# Altium schematic symbol library MainBoardLib.SchLib: 18 symbols
Pins are listed as number, name and electrical type; pins without a type are passive.

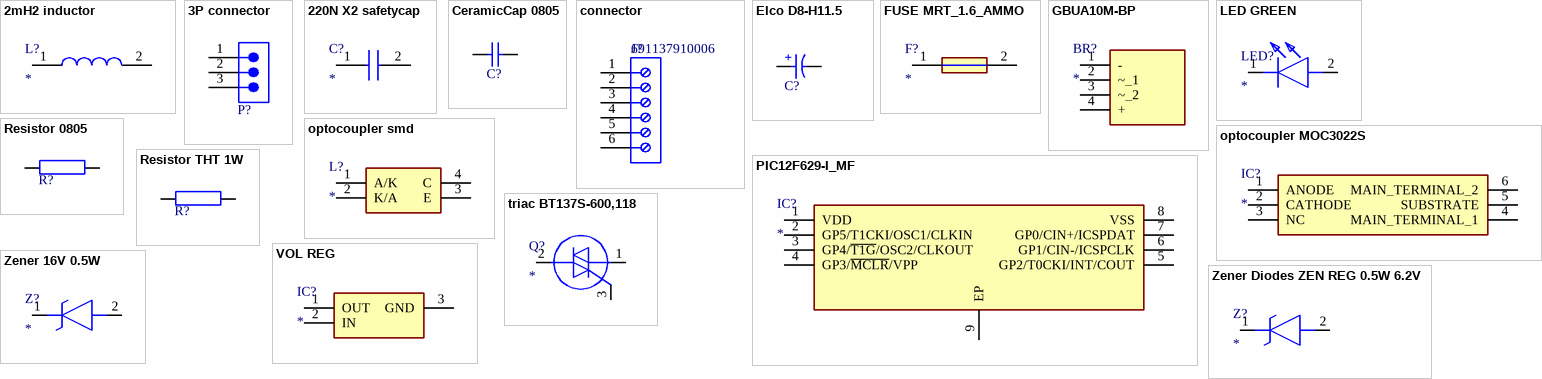
[diagram p0: symbols 2mH2 inductor to Zener Diodes ZEN REG 0.5W 6.2V]

## 2mH2 inductor
designator L?
Inductor  1140-222k-sc / 140-222K-RC; Manufacturer_Name: Bourns; Manufacturer_Part_Number: 1140-222K-RC; Datasheet Link: http://www.bourns.com/docs/Product-Datasheets/1140_series.pdf; Height: 26.162mm; Mouser Part Number: 542-1140-222K-RC; Mouser Price/Stock: https://www.mouser.co.uk/ProductDetail/Bourns/1140-222K-RC?qs=oBhrY4n2hVwJtcTK7vYUOQ%3D%3D; Arrow Part Number: 1140-222K-RC; Arrow Price/Stock: https://www.arrow.com/en/products/1140-222k-rc/bourns
footprint 2.2mH inductor (1140222KRC)
pins: 1, 2

## 3P connector
designator P?, comment 61300311121  (value not drawn)
WR-PHD Pin Header, THT, Vertical, pitch 2.54mm, 1 Row, 3P 61300311121; Manufacturer: Wurth Elektronik; Contact Resistance: 20mOhm; Rated Current: 3A; Working Voltage: 250V; Withstanding Voltage: 500V; Manufacturer Part Number: 61300311121; Category: Board-to-Board Connectors; Match Code: WR-PHD; ComponentLink1Description: Website Link; ComponentLink1URL: https://www.we-online.com/redexpert/article/61300311121?ad; ComponentLink2Description: Datasheet Link; ComponentLink2URL: https://www.we-online.com/redexpert/spec/61300311121?ad; Mount: Through Hole; Operating Temperature Max: 105°C; Operating Temperature Min: -40°C; Packaging: Bag; Gender: Pin Header; Number of Pins: 3; Number of Rows: 1; Orientation: Vertical; Pitch: 2.54mm
footprint connector 3p M (Pin Header, pitch 2.54 mm, THT, Vertical, single row, 3p)
pins: 1, 2, 3

## 220N X2 safetycap
designator C?
Capacitor B32932A3224K189; Manufacturer_Name: TDK; Datasheet Link: https://product.tdk.com/system/files/dam/doc/product/capacitor/film/emi/data_sheet/20/20/ds/mkt_b32932_936.pdf; Manufacturer_Part_Number: B32932A3224K189; Mouser Part Number: 871-B32932A3224K189; Mouser Price/Stock: https://www.mouser.co.uk/ProductDetail/EPCOS-TDK/B32932A3224K189?qs=xUjyHVpcJwaD87vZwqy58g%3D%3D
footprint B32932A_(18_x_8.5) (220N X2 safetycap)
pins: 1, 2

## CeramicCap 0805
designator C?, comment 100nF  (value not drawn)
WCAP-CSGP Multilayer Ceramic Chip Capacitor, General Purpose, size 0805, X7R, 100nF, 50VDC; Manufacturer Part Number: 885012207098; Manufacturer: Wurth Elektronik; Case/Size Code: 0805; Capacitance Tolerance: +/-10%; Dissipation Factor: 2.5%; Insulation Resistance: 5GOhm; Rated Voltage (DC): 50V; Technical Reference: X7R0805104K050DFCT10000; Category: Multilayer Ceramic Chip Capacitors; Match Code: WCAP-CSGP; ComponentLink1Description: Website Link; ComponentLink1URL: https://www.we-online.com/redexpert/article/885012207098?ad; ComponentLink2Description: Datasheet Link; ComponentLink2URL: https://www.we-online.com/redexpert/spec/885012207098?ad; Mount: Surface Mount; Operating Temperature Max: 125°C; Operating Temperature Min: -55°C; Packaging: Tape and Reel; Length: 2mm; Width: 1.25mm; Height: 0.8mm; Capacitance: 100nF; Ceramic Type: X7R
footprint WCAP-CSGP_0805_L2W1.25H0.8_Reflow (Ceramic Capacitors, body 2x1.25mm)
footprint WCAP-CSGP_0805_L2W1.25H0.8_Wave
simulation model 0805_885012207098_100nF
pins: 1, 2

## connector
designator J?, comment 691137910006
NexarPartId: 105950641
footprint connector 6p (Horizontal Cable Entry with Pressure Clamp, pitch 7.5mm, 06p)
pins: 1, 2, 3, 4, 5, 6

## Elco D8-H11.5
designator C?, comment 220uF  (value not drawn)
WCAP-ATG8 Aluminum Electrolytic Capacitor, Radial, THT, D8 x H11.5mm, 220uF, 35V; Manufacturer Part Number: 860010574011; Manufacturer: Wurth Elektronik; Capacitance Tolerance: +/-20%; Dissipation Factor: 12%; Endurance: 2000h; Leakage Current: 77uA; Ripple Current: 385mA; Technical Reference: ATBE115221M035DSPA7B000; Category: Aluminum Electrolytic Capacitors; Match Code: WCAP-ATG8; ComponentLink1Description: Website Link; ComponentLink1URL: https://www.we-online.com/redexpert/article/860010574011?ad; ComponentLink2Description: Datasheet Link; ComponentLink2URL: https://www.we-online.com/redexpert/spec/860010574011?ad; Mount: Through Hole; Operating Temperature Max: 85°C; Operating Temperature Min: -40°C; Packaging: Ammo Pack; Height: 11.5mm; Diameter: 8mm; Capacitance: 220uF; Rated Voltage (DC): 35V
footprint WCAP-ATG8_D8H11.5 (Aluminum Electrolytic Capacitors, 8x11.5mm)
simulation model 860010574011_220uF
pins: 1 P, 2 N
text: +

## FUSE MRT_1.6_AMMO
designator F?
Fuse MRT_1.6_AMMO; Manufacturer_Name: BelFuse; Manufacturer_Part_Number: MRT 1.6 AMMO; Datasheet Link: https://www.belfuse.com/resources/datasheets/circuitprotection/ds-cp-mrt-series.pdf; Height: 7.9mm; Mouser Part Number: 530-MRT1.6AMMO; Mouser Price/Stock: https://www.mouser.co.uk/ProductDetail/Bel-Fuse/MRT-16-AMMO?qs=MvPYbBWWJyvzAphvU3%252BjhQ%3D%3D; Arrow Part Number: MRT 1.6 AMMO; Arrow Price/Stock: https://www.arrow.com/en/products/mrt1.6-ammo/bel-group
footprint FUSE MRT (MRT16AMMO)
pins: 1, 2

## GBUA10M-BP
designator BR?
Bridge Rectifier; Manufacturer_Name: MCC; Manufacturer_Part_Number: GBUA10M-BP; Datasheet Link: https://www.mccsemi.com/pdf/Products/GBUA10M(JC).pdf; Height: 3.7mm
footprint TO508P370X2000X1310-4P
pins: 1 -, 2 ~_1, 3 ~_2, 4 +

## LED GREEN
designator LED?
LED HSMG-C170; Manufacturer_Name: Avago Technologies; Datasheet Link: https://datasheet.datasheetarchive.com/originals/distributors/SFDatasheet-4/sf-00083853.pdf; Height: 0.8mm; Manufacturer_Part_Number: HSMG-C170; Mouser Part Number: 630-HSMG-C170; Mouser Price/Stock: https://www.mouser.co.uk/ProductDetail/Broadcom-Avago/HSMG-C170?qs=YDL0qNrpDT4lm8ArMPkMEA%3D%3D
footprint LED 0805 (LEDC2012X80N)
pins: 1 K, 2 A

## optocoupler MOC3022S
designator IC?
integrated circuit; Manufacturer_Name: Lite-On; Manufacturer_Part_Number: MOC3022S; Datasheet Link: http://optoelectronics.liteon.com/upload/download/DS-70-99-0019/MOC302X%20series%20201606.pdf; Height: 4.6mm; Mouser Part Number: 859-MOC3022S; Mouser Price/Stock: https://www.mouser.co.uk/ProductDetail/Lite-On/MOC3022S?qs=Xz6ZzMsXYiMGEjhojNzjUw%3D%3D; Arrow Part Number: MOC3022S; Arrow Price/Stock: https://www.arrow.com/en/products/moc3022s/lite-on-technology
footprint optoucoupler MOC3022S (SOT254P1016X460-6N)
pins: 1 ANODE, 2 CATHODE, 3 NC, 4 MAIN_TERMINAL_1, 5 SUBSTRATE, 6 MAIN_TERMINAL_2

## optocoupler smd
designator L?
Inductor SFH6206-3T; Manufacturer_Name: Vishay; Datasheet Link: https://www.vishay.com/docs/83675/sfh620a.pdf; Height: 4.1mm; Manufacturer_Part_Number: SFH6206-3T; Mouser Part Number: 782-SFH6206-3T; Mouser Price/Stock: https://www.mouser.co.uk/ProductDetail/Vishay-Semiconductors/SFH6206-3T?qs=%2Fjqivxn91cfcfJy%252Bpwis%2Fw%3D%3D; Arrow Part Number: SFH6206-3T; Arrow Price/Stock: https://www.arrow.com/en/products/sfh6206-3t/vishay?region=europe
footprint optocoupler smd (SOP254P1005X410-4N)
pins: 1 A/K, 2 K/A, 3 E, 4 C

## PIC12F629-I_MF
designator IC?
Integrated Circuit; Manufacturer_Name: Microchip; Manufacturer_Part_Number: PIC12F629-I/MF; Datasheet Link: http://ww1.microchip.com/downloads/en/DeviceDoc/41190G.pdf; Height: 1mm; Mouser Part Number: 579-PIC12F629-I/MF; Mouser Price/Stock: https://www.mouser.co.uk/ProductDetail/Microchip-Technology-Atmel/PIC12F629-I-MF?qs=Ux5rHyN1IXRyFoXTct%252B9Fg%3D%3D; Arrow Part Number: PIC12F629-I/MF; Arrow Price/Stock: https://www.arrow.com/en/products/pic12f629-imf/microchip-technology
footprint PIC12F629-I_MF (SON127P600X500X100-9N-D)
pins: 1 VDD, 2 GP5/T1CKI/OSC1/CLKIN, 3 GP4/~{T1G}/OSC2/CLKOUT, 4 GP3/~{MCLR}/VPP, 5 GP2/T0CKI/INT/COUT, 6 GP1/CIN-/ICSPCLK, 7 GP0/CIN+/ICSPDAT, 8 VSS, 9 EP

## Resistor 0805
designator R?, comment 0.1Ω  (value not drawn)
WRIS-KSKE Thick Film Resistor, SMT, size 0805, 0.33W, 0.1Ω, +/-1%; Manufacturer Part Number: 560050320001; Manufacturer: Wurth Elektronik; Case/Size Code: 0805; Rated Current: 1.81A; Technical Reference: KE0805R100F103LAATP0000; Temperature Coefficient of Resistance: 250ppm/°C; Category: Thick Film Resistors; Match Code: WRIS-KSKE; ComponentLink1Description: Website Link; ComponentLink1URL: https://www.we-online.com/redexpert/article/560050320001?ad; ComponentLink2Description: Datasheet Link; ComponentLink2URL: https://www.we-online.com/redexpert/spec/560050320001?ad; Mount: Surface Mount; Operating Temperature Max: 155°C; Operating Temperature Min: -55°C; Packaging: Tape and Reel; Length: 2mm; Width: 1.25mm; Height: 0.6mm; Rated Power: 0.33W; Resistance: 0.1Ω; Resistance Tolerance: +/-1%
footprint Res 0805 (Thick Film Resistors, SMT, body size 2x1.25mm)
pins: 1, 2

## Resistor THT 1W
designator R?, comment 0.1Ω  (value not drawn)
Manufacturer Part Number: 560050320001; Manufacturer: Wurth Elektronik; Match Code: WRIS-KSKE; Case/Size Code: 0805; Rated Current: 1.81A; Rated Power: 0.33W; Resistance Tolerance: +/-1%; Technical Reference: KE0805R100F103LAATP0000; Temperature Coefficient of Resistance: 250ppm/°C; Category: Thick Film Resistors; ComponentLink1Description: Website Link; ComponentLink1URL: https://www.we-online.com/redexpert/article/560050320001?ad; ComponentLink2Description: Datasheet Link; ComponentLink2URL: https://www.we-online.com/redexpert/spec/560050320001?ad; Mount: Surface Mount; Operating Temperature Max: 155°C; Operating Temperature Min: -55°C; Packaging: Tape and Reel; Length: 2mm; Width: 1.25mm; Height: 0.6mm; Resistance: 0.1Ω
footprint RES_THT_1W
pins: 1, 2

## triac BT137S-600,118
designator Q?
Triac BT137S-600,118; Manufacturer_Name: WeEn Semiconductors; Datasheet Link: https://datasheet.datasheetarchive.com/originals/distributors/Datasheets_SAMA/6f648ac3c87a35283db8e9482e52c049.pdf; Height: 2.38mm; Manufacturer_Part_Number: BT137S-600,118; Mouser Part Number: 771-BT137S-600118; Mouser Price/Stock: https://www.mouser.co.uk/ProductDetail/WeEn-Semiconductors/BT137S-600118?qs=me8TqzrmIYXlu%252B8KdpBmXQ%3D%3D; Arrow Part Number: BT137S-600,118; Arrow Price/Stock: https://www.arrow.com/en/products/bt137s-600118/ween-semiconductors?region=nac
footprint triac bt137 (BT137S600118)
pins: 1 MT1, 2 MT2, 3 G

## VOL REG
designator IC?
Integrated Circuit LM3480IM3X-5.0_NOPB; Manufacturer_Name: Texas Instruments; Manufacturer_Part_Number: LM3480IM3X-5.0/NOPB; Datasheet Link: http://www.ti.com/lit/gpn/LM3480; Height: 1.12mm; Mouser Part Number: 926-LM3480IM3X50NOPB; Mouser Price/Stock: https://www.mouser.co.uk/ProductDetail/Texas-Instruments/LM3480IM3X-5.0-NOPB?qs=X1J7HmVL2ZHSOja%2Fw1xDFA%3D%3D; Arrow Part Number: LM3480IM3X-5.0/NOPB; Arrow Price/Stock: https://www.arrow.com/en/products/lm3480im3x-5.0nopb/texas-instruments?region=nac
footprint Vol reg (SOT95P237X112-3N)
pins: 1 OUT, 2 IN, 3 GND

## Zener 16V 0.5W
designator Z?
Zener Diode / SZ1SMA5930BT3G; Manufacturer_Name: onsemi; Datasheet Link: https://www.onsemi.com/pub/Collateral/1SMA5913BT3-D.PDF; Height: 2.2mm; Manufacturer_Part_Number: SZ1SMA5930BT3G; Mouser Part Number: 863-SZ1SMA5930BT3G; Mouser Price/Stock: https://www.mouser.co.uk/ProductDetail/onsemi/SZ1SMA5930BT3G?qs=PJJcWtbOkNU2Dey35wiGFw%3D%3D; Arrow Part Number: SZ1SMA5930BT3G; Arrow Price/Stock: https://www.arrow.com/en/products/sz1sma5930bt3g/on-semiconductor
footprint DIOM5226X220N
pins: 1 K, 2 A

## Zener Diodes ZEN REG 0.5W 6.2V
designator Z?
Zener Diode / SZMMSZ4691T1G; Manufacturer_Name: onsemi; Datasheet Link: https://componentsearchengine.com/Datasheets/2/SZMMSZ4691T1G.pdf; Height: 1.35mm; Manufacturer_Part_Number: SZMMSZ4691T1G; Mouser Part Number: 863-SZMMSZ4691T1G; Mouser Price/Stock: https://www.mouser.co.uk/ProductDetail/onsemi/SZMMSZ4691T1G?qs=PJJcWtbOkNVmtHltI2Mc2w%3D%3D; Arrow Part Number: SZMMSZ4691T1G; Arrow Price/Stock: https://www.arrow.com/en/products/szmmsz4691t1g/on-semiconductor?region=nac
footprint Zener Diodes ZEN REG 0.5W 6.2V (SOD3716X135N)
pins: 1 K, 2 A